# EAGLE library part TLV320AIC14 (library TLV320AIC14)
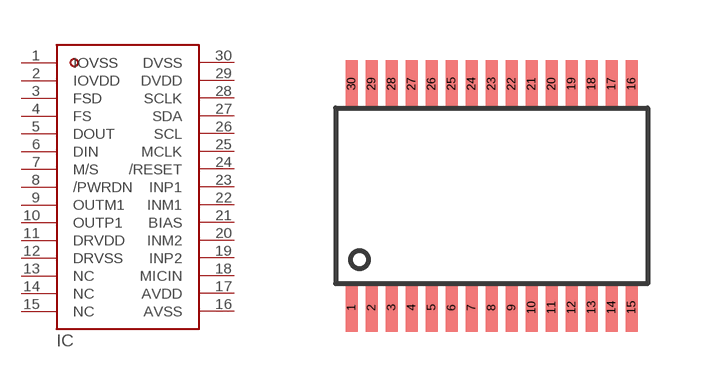
[diagram p0: symbol with the pads of R-PDSO-G30; footprint R-PDSO-G30]

Designator prefix IC

## TLV320AIC14R-PDSO-G30  [R-PDSO-G30]
1  IOVSS
2  IOVDD
3  FSD
4  FS
5  DOUT
6  DIN
7  M/S
8  /PWRDN
9  OUTM1
10  OUTP1
11  DRVDD
12  DRVSS
13  NC
14  NC
15  NC
16  AVSS
17  AVDD
18  MICIN
19  INP2
20  INM2
21  BIAS
22  INM1
23  INP1
24  /RESET
25  MCLK
26  SCL
27  SDA
28  SCLK
29  DVDD
30  DVSS

## Footprint R-PDSO-G30 (pad centres in mm)
smd 0.3 x 1.2: 1 -3.5,-2.8; 2 -3,-2.8; 3 -2.5,-2.8; 4 -2,-2.8; 5 -1.5,-2.8; 6 -1,-2.8; 7 -0.5,-2.8; 8 0,-2.8; 9 0.5,-2.8; 10 1,-2.8; 11 1.5,-2.8; 12 2,-2.8; 13 2.5,-2.8; 14 3,-2.8; 15 3.5,-2.8; 16 3.5,2.8; 17 3,2.8; 18 2.5,2.8; 19 2,2.8; 20 1.5,2.8; 21 1,2.8; 22 0.5,2.8; 23 0,2.8; 24 -0.5,2.8; 25 -1,2.8; 26 -1.5,2.8; 27 -2,2.8; 28 -2.5,2.8; 29 -3,2.8; 30 -3.5,2.8